# Altium footprint library 2092-1172000-1000.PcbLib: 1 footprints
Each footprint in its own frame and in the unit in brackets; x right, y up, seen from the top. Pads: shape width x height; smd on the part's side, far side on the other; paste and mask are expansions set on the pad; w line width, h text height; cw(c..) or ccw(c..) is an arc to the next point about the centre after c.
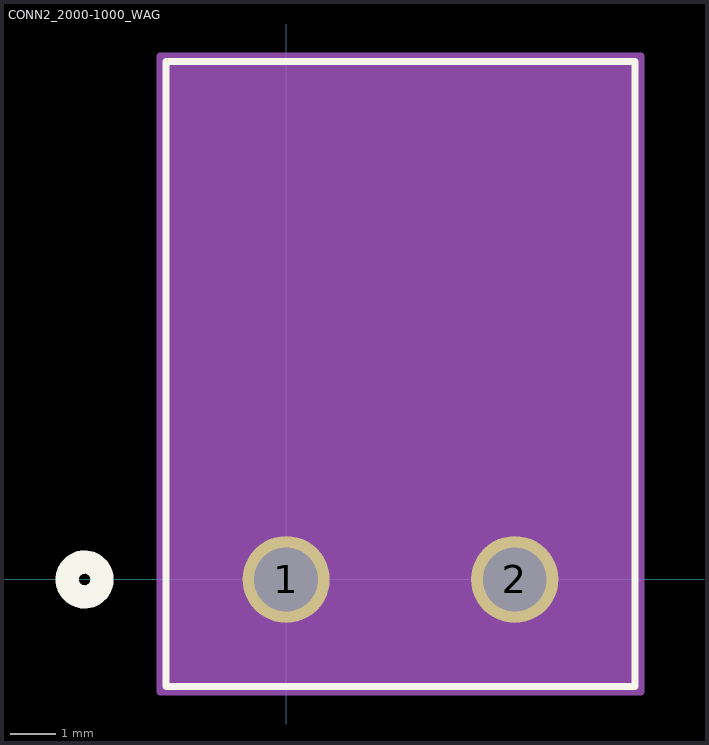
[diagram p0: the footprint, top view; thin cyan lines are the x and y axes]

## CONN2_2000-1000_WAG [mil]
pads (2):
  round 75 / inner round 60 / far side round 75 hole 55 paste-37.5 mask+0: 1(0,0) 2(196.85,0)
Top Overlay:
  circle w20: c-173.57,0 r15
  lines w6: -103.57,-92.06 300.43,-92.06 300.43,445.94 -103.57,445.94 -103.57,-92.06
Bottom Overlay:
  circle w20: c-173.57,0 r15
Mechanical 13:
  circle w20: c0,75 r15
  lines w1: -98.57,-87.06 295.43,-87.06 295.43,440.94 -98.57,440.94 -98.57,-87.06
Mechanical 15:
  region: 305.43,450.94 -108.57,450.94 -108.57,-97.06 305.43,-97.06
  lines w6: -108.57,-97.06 -108.57,450.94 305.43,450.94 305.43,-97.06 -108.57,-97.06